# Altium footprint library PCB.PcbLib: 9 footprints
Each footprint in its own frame and in the unit in brackets; x right, y up, seen from the top. Pads: shape width x height; smd on the part's side, far side on the other; paste and mask are expansions set on the pad; w line width, h text height; cw(c..) or ccw(c..) is an arc to the next point about the centre after c.
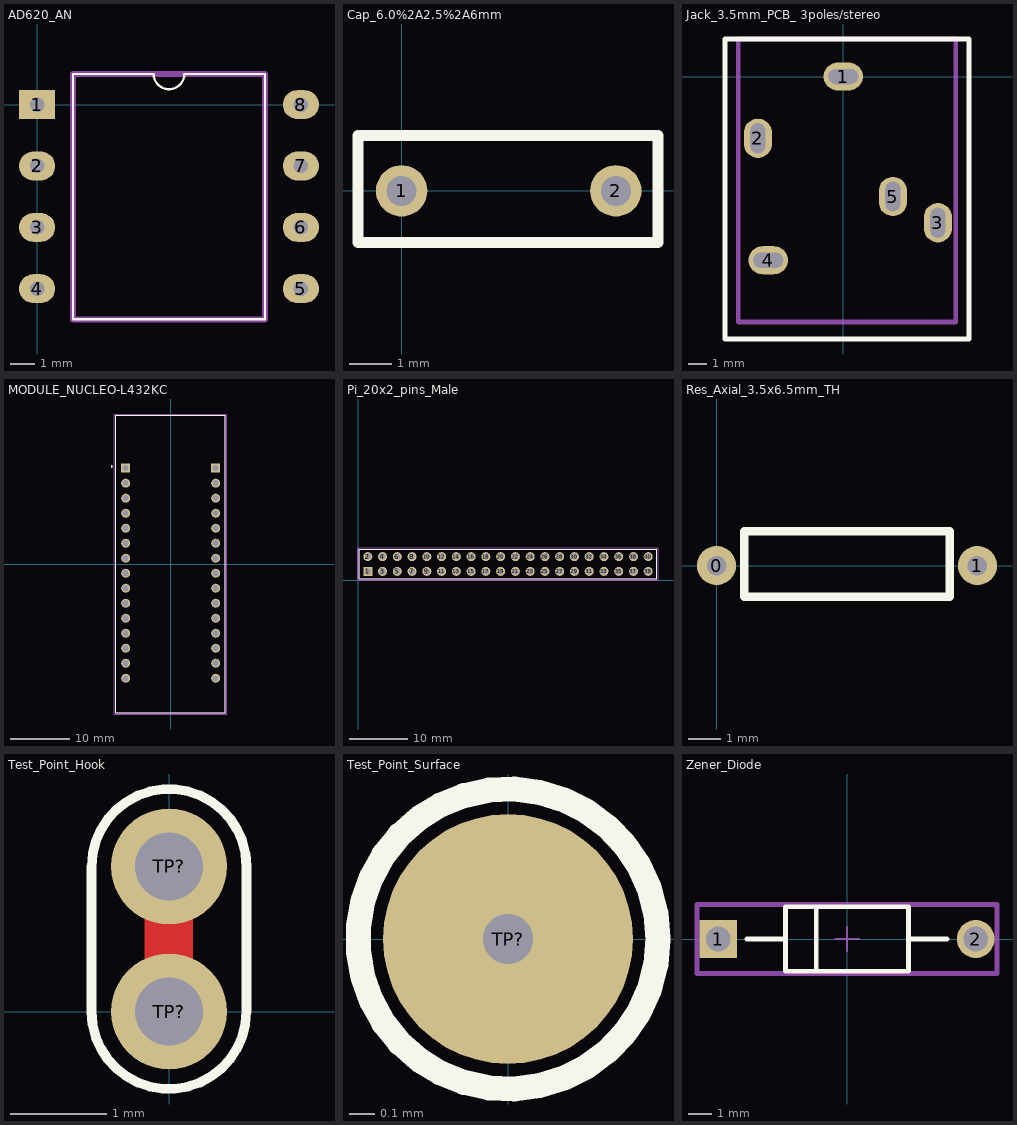
[diagram p0: the footprints below, top view; thin cyan lines are the x and y axes]

## AD620_AN [mm]
pads (8):
  rect 1.5x1.2 hole 0.6: 1(0,0)
  oval 1.5x1.2 hole 0.6: 2(0,-2.54) 3(0,-5.08) 4(0,-7.62) 5(10.92,-7.62) 6(10.92,-5.08) 7(10.92,-2.54) 8(10.92,0)
Top Overlay:
  lines w0.1: 1.485,-8.89 9.435,-8.89 9.435,1.27 6.095,1.27 cw(c5.46,1.27) 4.825,1.27 1.485,1.27 1.485,-8.89
Top 3D Body:
  lines w0.254: 1.485,-8.89 9.435,-8.89 9.435,1.27 1.485,1.27 1.485,-8.89
3D body: height 4.26, standoff 1, extent 1.485,-8.89 9.435,1.27
3D body: height 2.5, standoff -1, extent -0.3,-0.3 0.3,0.3
3D body: height 2.5, standoff -1, extent -0.3,-2.84 0.3,-2.24
3D body: height 3.26, standoff 1.74, extent -0.053,-2.844 1.98,-2.244
3D body: height 3.26, standoff 1.74, extent -0.053,-0.302 1.98,0.298
3D body: height 2.5, standoff -1, extent -0.3,-5.38 0.3,-4.78
3D body: height 2.5, standoff -1, extent -0.3,-7.92 0.3,-7.32
3D body: height 3.26, standoff 1.74, extent -0.029,-5.38 2.003,-4.78
3D body: height 3.26, standoff 1.74, extent -0.03,-7.919 2.002,-7.319
3D body: height 2.5, standoff -1, extent 10.62,-0.3 11.22,0.3
3D body: height 2.5, standoff -1, extent 10.62,-2.84 11.22,-2.24
3D body: height 3.26, standoff 1.74, extent 8.909,-0.291 10.942,0.309
3D body: height 2.5, standoff -1, extent 10.62,-5.38 11.22,-4.78
3D body: height 2.5, standoff -1, extent 10.62,-7.92 11.22,-7.32
3D body: height 3.26, standoff 1.74, extent 8.909,-2.801 10.942,-2.201
3D body: height 3.26, standoff 1.74, extent 8.909,-5.399 10.942,-4.8
3D body: height 3.26, standoff 1.74, extent 8.909,-7.928 10.942,-7.328

## Cap_6.0%2A2.5%2A6mm [mm]
pads (2):
  round 1.2 hole 0.7: 1(0,0) 2(5,0)
Top Overlay:
  lines w0.254: -1.017,-1.208 5.983,-1.208 5.983,1.292 -1.017,1.292 -1.017,-1.208
3D body: height 6, standoff 0, extent -1.017,-1.208 5.983,1.292

## Jack_3.5mm_PCB_ 3poles/stereo [mm]
pads (5):
  oval 2.1x1.5 hole 0.8 slot 1.6 at 0 deg: 1(0,0) 4(-4,-9.8)
  oval 1.5x2.1 hole 0.8 slot 1.6 at 90 deg: 2(-4.55,-3.3) 3(5.05,-7.8) 5(2.65,-6.4)
Top Overlay:
  lines w0.254: -6.3,-14 6.7,-14 6.7,2 -6.3,2 -6.3,-14
Mechanical 1:
  lines w0.254: -5.6,-13.1 6,-13.1 6,2 -5.6,2 -5.6,-13.1
3D body: height 8, standoff 0.5, extent -5.6,-13.1 6,2
3D body: height 8.8, standoff -0.8, extent -4.8,2.115 4.8,3.385
3D body: height 7.75, standoff 0.25, extent -3.75,2.1 3.75,5.1

## MODULE_NUCLEO-L432KC [mm]
pads (30):
  rect 1.53x1.53 hole 1.02: CN3_1(-7.62,16.215) CN4_1(7.62,16.215)
  round 1.53 hole 1.02: CN3_2(-7.62,13.675) CN3_3(-7.62,11.135) CN3_4(-7.62,8.595) CN3_5(-7.62,6.055) CN3_6(-7.62,3.515) CN3_7(-7.62,0.975) CN3_8(-7.62,-1.565) CN3_9(-7.62,-4.105) CN3_10(-7.62,-6.645) CN3_11(-7.62,-9.185) CN3_12(-7.62,-11.725) CN3_13(-7.62,-14.265) CN3_14(-7.62,-16.805) CN3_15(-7.62,-19.345) CN4_2(7.62,13.675) CN4_3(7.62,11.135) CN4_4(7.62,8.595) CN4_5(7.62,6.055) CN4_6(7.62,3.515) CN4_7(7.62,0.975) CN4_8(7.62,-1.565) CN4_9(7.62,-4.105) CN4_10(7.62,-6.645) CN4_11(7.62,-9.185) CN4_12(7.62,-11.725) CN4_13(7.62,-14.265) CN4_14(7.62,-16.805) CN4_15(7.62,-19.345)
Top Overlay:
  circle w0.2: c-10,16.5 r0.1
  lines w0.127: -9.27,-25.145 -9.27,25.145 9.27,25.145 9.27,-25.145 -9.27,-25.145
Mechanical 13:
  circle w0.2: c-10,16.5 r0.1
  lines w0.127: -9.27,-25.145 9.27,-25.145 9.27,25.145 -9.27,25.145 -9.27,-25.145
Mechanical 15:
  lines w0.05: -9.52,-25.395 9.52,-25.395 9.52,25.395 -9.52,25.395 -9.52,-25.395

## Pi_20x2_pins_Male [mm] ".025 SQ Post Terminal Strip Assembly, 2x20 Pins, Vertical, 2.54mm Pitch, Male"
height 9.47
pads (40):
  rect 1.55x1.55 hole 1.02: 1(1.684,1.566)
  round 1.55 hole 1.02: 2(1.684,4.106) 3(4.224,1.566) 4(4.224,4.106) 5(6.764,1.566) 6(6.764,4.106) 7(9.304,1.566) 8(9.304,4.106) 9(11.844,1.566) 10(11.844,4.106) 11(14.384,1.566) 12(14.384,4.106) 13(16.924,1.566) 14(16.924,4.106) 15(19.464,1.566) 16(19.464,4.106) 17(22.004,1.566) 18(22.004,4.106) 19(24.544,1.566) 20(24.544,4.106) 21(27.084,1.566) 22(27.084,4.106) 23(29.624,1.566) 24(29.624,4.106) 25(32.164,1.566) 26(32.164,4.106) 27(34.704,1.566) 28(34.704,4.106) 29(37.244,1.566) 30(37.244,4.106) 31(39.784,1.566) 32(39.784,4.106) 33(42.324,1.566) 34(42.324,4.106) 35(44.864,1.566) 36(44.864,4.106) 37(47.404,1.566) 38(47.404,4.106) 39(49.944,1.566) 40(49.944,4.106)
Top Overlay:
  lines w0.2: 0.224,0.296 0.224,5.376 51.404,5.376 51.404,0.296 0.224,0.296
Mechanical 13:
  lines w0.1: 0.224,0.296 0.224,5.376 51.404,5.376 51.404,0.296 0.224,0.296
Mechanical 15:
  lines w0.05: -0.001,0.071 -0.001,5.602 51.629,5.602 51.629,0.071 -0.001,0.071
3D body "TSW-120-24-X-D.step": height 9.27, standoff -2.92, extent 0.224,0.297 51.024,5.377

## Res_Axial_3.5x6.5mm_TH [mm]
pads (2):
  round 1.2 hole 0.6: 0(0,0) 1(8,0)
Top Overlay:
  lines w0.254: 0.85,-0.95 7.15,-0.95 7.15,1.05 0.85,1.05 0.85,-0.95
3D body: height 2.1, standoff 0.1, extent 0.85,-1 7.15,1

## Test_Point_Hook [mm]
pads (2):
  round 1.2 hole 0.7: TP?(0,0) TP?(0,1.5)
Top Layer:
  lines w0.5: -0.004,0.555 -0.004,1.004
Top Overlay:
  lines w0.1: -0.803,0 ccw(c-0.001,0) 0.8,0 0.8,1.5 ; -0.803,0.015 -0.803,1.488 ; -0.801,1.5 cw(c0,1.5) 0.801,1.5

## Test_Point_Surface [mm]
pads (1):
  round 1 hole 0.2: TP?(0,0)
Top Overlay:
  circle w0.1: c0,0 r0.6
Bottom Overlay:
  circle w0.1: c0,0 r0.6

## Zener_Diode [mm]
pads (2):
  rect 1.6x1.6 hole 1.05 paste-2539.97 mask+0: 1(-5.438,0)
  round 1.6 hole 1.05 paste-2539.97 mask+0: 2(5.438,0)
Top Overlay:
  lines w0.2: -4.238,0 -2.6,0 ; -1.3,-1.29 -1.3,1.29 ; 2.6,0 4.238,0 ; -2.6,-1.36 -2.6,1.36 2.6,1.36 2.6,-1.36 -2.6,-1.36
Top 3D Body:
  lines w0.2: -2.6,-1.36 -2.6,1.36 2.6,1.36 2.6,-1.36 -2.6,-1.36
Top Courtyard:
  lines w0.2: -6.338,-1.46 -6.338,1.46 6.338,1.46 6.338,-1.46 -6.338,-1.46
Top Assembly:
  lines w0.2: -6.338,-1.46 -6.338,1.46 6.338,1.46 6.338,-1.46 -6.338,-1.46
  text ".Designator" at 0,0.188 h1
Top Component Center:
  lines w0.1: -0.5,0 0.5,0 ; 0,-0.5 0,0.5
3D body "Diode_ON_Semiconductor_BZX85C12_eec.STEP": height 0.25, standoff 0, extent -6.338,-1.46 6.338,1.46